# Altium schematic symbol library Thermal_cam.SchLib: 1 symbol
Pins are listed as number, name and electrical type; pins without a type are passive.

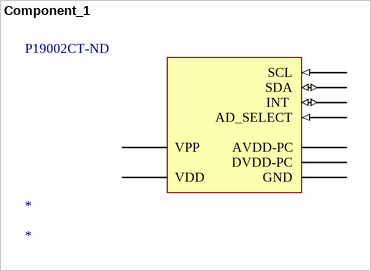
[diagram p0: symbol Component_1]

## Component_1
designator *  Supplier Part Number 1: P19002CT-ND
Manufacturer: Panasonic; Manufacturer Part Number: AMG8833; Output Type: I2C; Sensing Method: Infrared (IR); Supplier 1: Digi-Key; RoHS: Yes; Stock 1: 866; Pricing 1: 1 = 32.50000, 5 = 31.02400, 10 = 28.06900, 25 = 25.85280, 50 = 22.89820 (USD); Case/Package: SMD/SMT; Min Operating Temperature: 0°C; Max Operating Temperature: 80°C; Packaging: Tape and Reel
pins: ?1 SCL (in), ?2 SDA (io), ?3 INT  (io), ?4 AVDD-PC, ?5 DVDD-PC, ?6 GND (power), ?7 VPP, ?8 VDD, ?9 AD_SELECT (in)